# EAGLE library part LMR16006Y (library customics)
LMR16006Y-Q1 SIMPLE SWITCHER® Buck Regulators With High-Efficiency ECO Mode http://www.ti.com/lit/ds/symlink/lmr16006y-q1.pdf
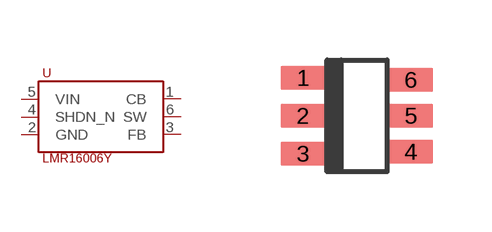
[diagram p13: symbol with the pads of SOT6; footprint SOT6]

Designator prefix -

## LMR16006Y  [SOT6]
1  CB  in
2  GND  pwr
3  FB  in
4  SHDN_N  in
5  VIN  pwr
6  SW  out

## Footprint SOT6 (pad centres in mm)
smd 1.1 x 0.6: 1 -1.35,0.95; 2 -1.35,0; 3 -1.35,-0.95; 4 1.35,-0.9; 5 1.35,0; 6 1.35,0.9